# EAGLE library part TPS22963CYZPR (library shepherd)
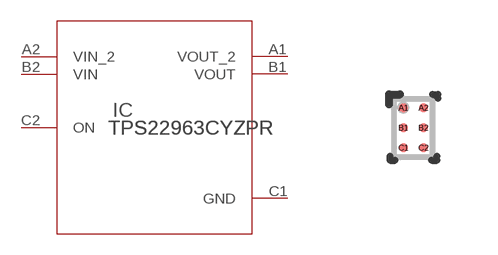
[diagram p29: symbol with the pads of YZP0006AFAF; footprint YZP0006AFAF]

Designator prefix IC

## TPS22963CYZPR (ALTERNATE_PARTNUMBER: TPS22963CYZPT; APPLICATION_BUILDNUMBER: *; COMPTYPE: IC; MANUFACTURER: Texas Instruments; MOUNTTYPE: SMT; PACKAGEREFERENCE: YZP0006AFAF; PARTNUMBER: TPS22963CYZPR; PIN_COUNT: 6; REFDES: RefDes; ROHS: Y; TYPE: TYPE; VALUE: Value)  [YZP0006AFAF]
A1  VOUT_2  out
A2  VIN_2  in
B1  VOUT  out
B2  VIN  in
C1  GND  pwr
C2  ON  in

## Footprint YZP0006AFAF (pad centres in mm)
smd 0.23 x 0.23: A1 -0.25,0.5; A2 0.25,0.5; B1 -0.25,0; B2 0.25,0; C1 -0.25,-0.5; C2 0.25,-0.5